# Altium schematic symbol library LDO_1G_2O_3I.SchLib: 1 symbol
Pins are listed as number, name and electrical type; pins without a type are passive.

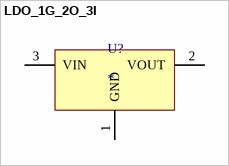
[diagram p0: symbol LDO_1G_2O_3I]

## LDO_1G_2O_3I
designator U?
pins: 1 GND, 2 VOUT, 3 VIN